# Altium footprint library Passives.PcbLib: 75 footprints (part 4 of 5)
Each footprint in its own frame and in the unit in brackets; x right, y up, seen from the top. Pads: shape width x height; smd on the part's side, far side on the other; paste and mask are expansions set on the pad; w line width, h text height; cw(c..) or ccw(c..) is an arc to the next point about the centre after c.
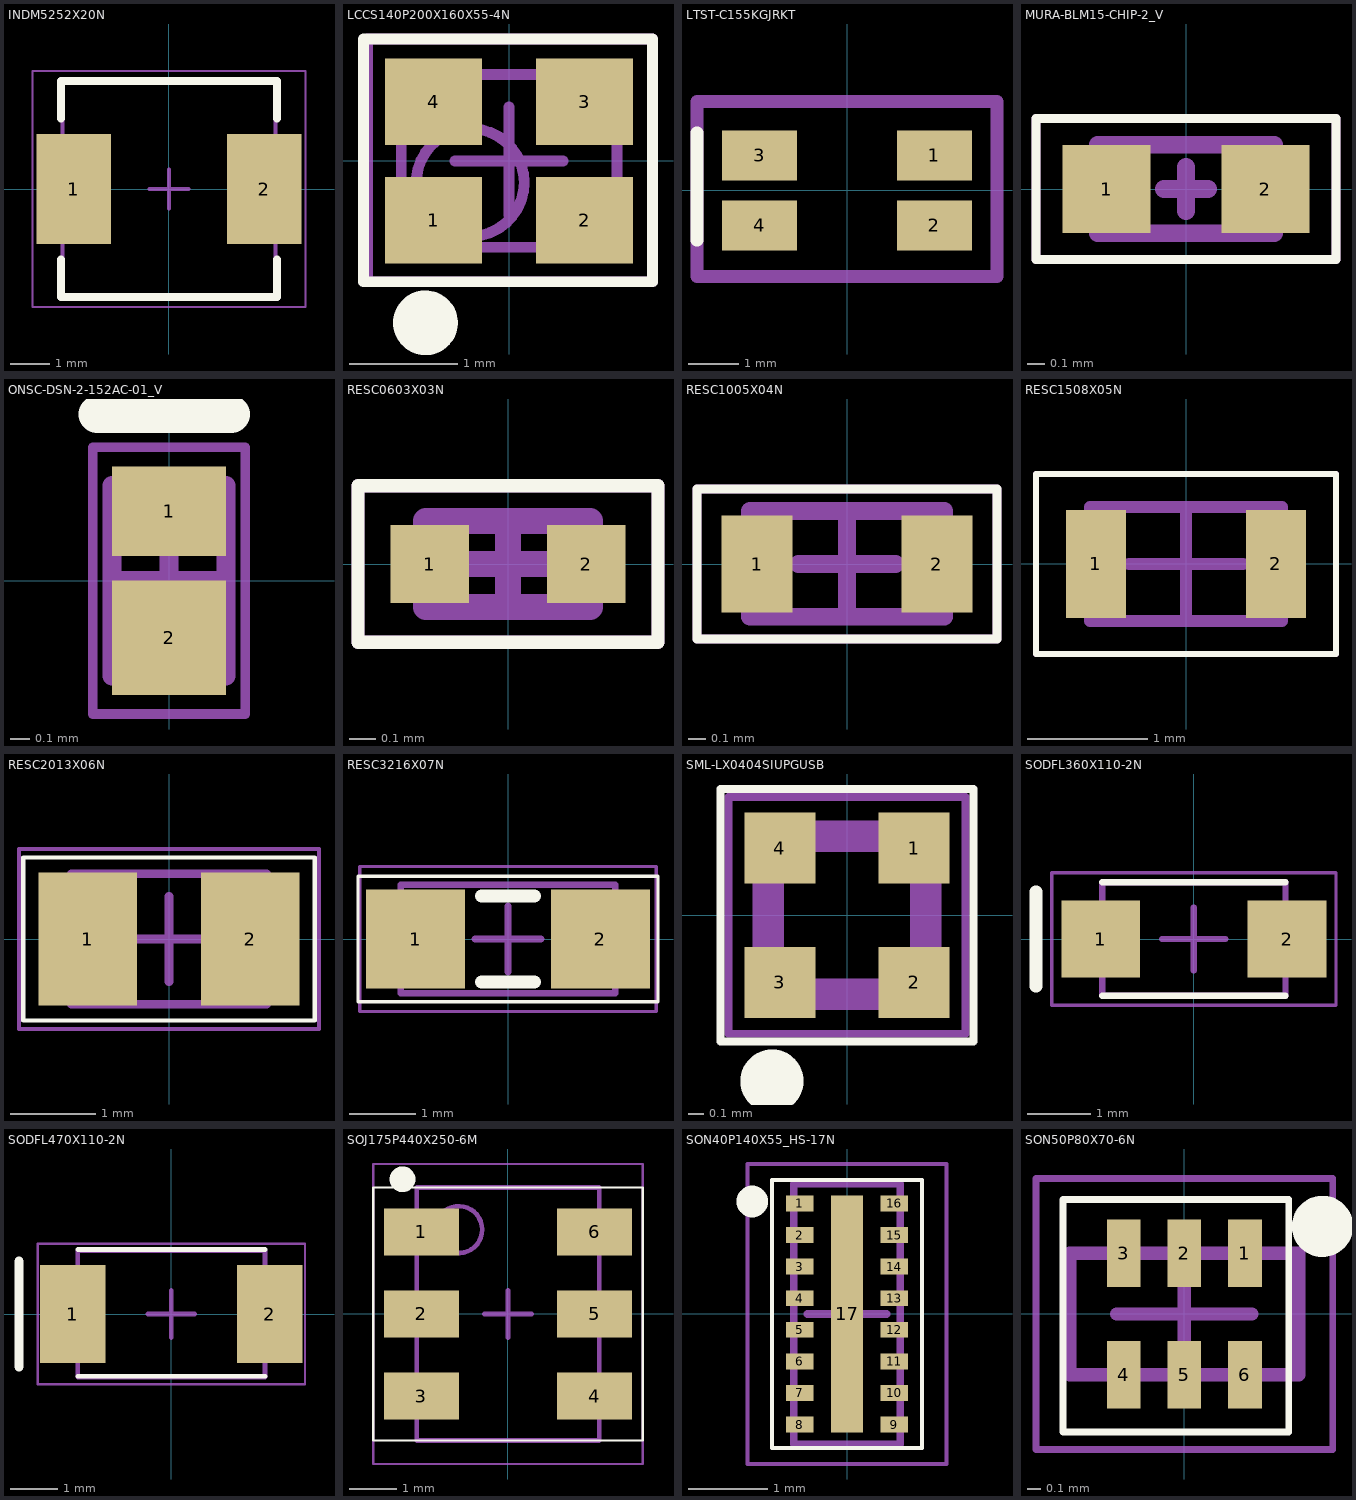
[diagram p3: the footprints below, top view; thin cyan lines are the x and y axes]

## INDM5252X20N [mm] "Molded Inductor, 2-Leads, Body 5.18x5.18mm, IPC Medium Density"
height 2
pads (2):
  rect 1.905x2.79 smd: 1(-2.425,0) 2(2.426,0)
Top Overlay:
  lines w0.2: -2.75,-1.795 -2.75,-2.75 2.75,-2.75 2.75,-1.795 ; -2.75,1.795 -2.75,2.75 2.75,2.75 2.75,1.795
Top 3D Body:
  lines w0.1: -2.715,-2.715 -2.715,2.715 2.715,2.715 2.715,-2.715 -2.715,-2.715
Top Assembly:
  lines w0.05: -3.475,-3 3.475,-3 3.475,3 -3.475,3 -3.475,-3
  lines w0.1: -0.5,0 0.5,0 ; 0,-0.5 0,0.5
Top Courtyard:
  lines w0.05: -3.475,-3 -3.475,3 3.475,3 3.475,-3 -3.475,-3
  text ".Designator" at -0.475,-0.2 h0.4
3D body "INDM5252X20N.step": height 2, standoff 0, extent -2.935,-2.715 2.935,2.715

## LCCS140P200X160X55-4N [mm] "LCC, 4-Pins, Body 2.00x1.60mmx0.55mm, Pitch 1.40mm, IPC Medium Density"
height 0.55
pads (4):
  rect 0.9x0.8 smd: 1(-0.7,-0.55) 2(0.7,-0.55) 3(0.7,0.55) 4(-0.7,0.55)
Top Overlay:
  circle w0.3: c-0.775,-1.5 r0.15
  lines w0.1: -1.35,-1.12 -1.35,1.13 1.33,1.13 1.33,-1.12 -1.35,-1.12
Top 3D Body:
  circle w0.1: c-0.36,-0.2 r0.5
  lines w0.1: -1,-0.8 1,-0.8 1,0.8 -1,0.8 -1,-0.8
Top Assembly:
  lines w0.1: -0.5,0 0.5,0 ; 0,-0.5 0,0.5 ; -1.31,-1.12 1.33,-1.12 1.33,1.13 -1.31,1.13 -1.31,-1.12
Top Courtyard:
  lines w0.1: -1.31,-1.12 1.33,-1.12 1.33,1.13 -1.31,1.13 -1.31,-1.12
  text ".Designator" at -0.4,-0.225 h0.5
3D body: height 0.55, standoff 0, extent -1,-0.8 1,0.8

## LTST-C155KGJRKT [mm]
pads (4):
  rect 1.5x1 smd: 1(1.75,0.7) 2(1.75,-0.7) 3(-1.75,0.7) 4(-1.75,-0.7)
Top Overlay:
  lines w0.254: -3,-1 -3,1.15
Top Assembly:
  lines w0.254: -3,-1.725 -3,1.775 3,1.775 3,-1.725 -3,-1.725
Top Courtyard:
  lines w0.254: -3,-1.725 3,-1.725 3,1.775 -3,1.775 -3,-1.725
  text ".Designator" at -2.575,-0.239 h0.7
3D body "LTST-C155KGJRKT.STEP": height 1.1, standoff 0, extent -1.775,-1.3 1.425,1.4

## MURA-BLM15-CHIP-2_V [mm] "Chip Ferrite Bead, 2-Leads, Body 1x0.5mm"
height 0.55
pads (2):
  rect 0.5x0.5 smd: 1(-0.45,0) 2(0.45,0)
Top Overlay:
  lines w0.05: -0.85,-0.4 0.85,-0.4 0.85,0.4 -0.85,0.4 -0.85,-0.4
Top 3D Body:
  lines w0.1: -0.5,-0.25 0.5,-0.25 0.5,0.25 -0.5,0.25 -0.5,-0.25
Top Assembly:
  lines w0.05: -0.85,-0.4 0.85,-0.4 0.85,0.4 -0.85,0.4 -0.85,-0.4
  lines w0.1: -0.125,0 0.125,0 ; 0,-0.125 0,0.125
Top Courtyard:
  lines w0.05: -0.85,-0.4 0.85,-0.4 0.85,0.4 -0.85,0.4 -0.85,-0.4
  text ".Designator" at -0.65,-0.142 h0.4
3D body "RESC1005X06L.step": height 0.55, standoff 0, extent -0.525,-0.275 0.525,0.275

## ONSC-DSN-2-152AC-01_V [mm] "DSN, 2-Leads, Body 1x0.6mm"
height 0.31
pads (2):
  rect 0.6x0.47 smd paste+0 mask+0: 1(0,0.365)
  rect 0.6x0.6 smd paste+0 mask+0: 2(0,-0.3)
Top Overlay:
  lines w0.2: -0.375,0.875 0.325,0.875
Top 3D Body:
  lines w0.1: -0.3,-0.5 0.3,-0.5 0.3,0.5 -0.3,0.5 -0.3,-0.5
Top Assembly:
  lines w0.05: -0.4,-0.7 0.4,-0.7 0.4,0.7 -0.4,0.7 -0.4,-0.7
  lines w0.1: -0.25,0 0.25,0 ; 0,-0.25 0,0.25
3D body: height 0.31, standoff 0, extent -0.3,-0.5 0.3,0.5

## RESC0603X03N [mm] "Chip Resistor, 2-Leads, Body 0.60x0.30mm, IPC Medium Density"
height 0.26
pads (2):
  rect 0.3x0.3 smd mask+0.04: 1(-0.3,0) 2(0.3,0)
Top Overlay:
  lines w0.05: -0.575,-0.3 0.575,-0.3 0.575,0.3 -0.575,0.3 -0.575,-0.3
Top 3D Body:
  lines w0.1: -0.315,-0.165 0.315,-0.165 0.315,0.165 -0.315,0.165 -0.315,-0.165
Top Assembly:
  lines w0.05: -0.575,-0.3 -0.575,0.3 0.575,0.3 0.575,-0.3 -0.575,-0.3
  lines w0.1: -0.165,0 0.165,0 ; 0,-0.165 0,0.165
Top Courtyard:
  lines w0.05: -0.575,-0.3 -0.575,0.3 0.575,0.3 0.575,-0.3 -0.575,-0.3
  text ".Designator" at -0.25,-0.15 h0.3
3D body "RESC0603X03N.step": height 0.26, standoff 0, extent -0.315,-0.165 0.315,0.165

## RESC1005X04N [mm] "Chip Resistor, 2-Leads, Body 1.00x0.50mm, IPC Medium Density"
height 0.4
pads (2):
  rect 0.4x0.55 smd: 1(-0.51,0) 2(0.51,0)
Top Overlay:
  lines w0.05: -0.85,-0.425 -0.85,0.425 0.85,0.425 0.85,-0.425 -0.85,-0.425
Top 3D Body:
  lines w0.1: -0.55,-0.3 0.55,-0.3 0.55,0.3 -0.55,0.3 -0.55,-0.3
Top Assembly:
  lines w0.05: -0.85,-0.425 0.85,-0.425 0.85,0.425 -0.85,0.425 -0.85,-0.425
  lines w0.1: -0.275,0 0.275,0 ; 0,-0.275 0,0.275
Top Courtyard:
  lines w0.05: -0.85,-0.425 0.85,-0.425 0.85,0.425 -0.85,0.425 -0.85,-0.425
  text ".Designator" at -0.794,-0.121 h0.5
3D body "RESC1005X06N.step": height 0.6, standoff 0, extent -0.55,-0.3 0.55,0.3

## RESC1508X05N [mm] "Chip Resistor, 2-Leads, Body 1.53x0.85mm, IPC Medium Density"
height 0.5
pads (2):
  rect 0.5x0.9 smd: 1(-0.75,0) 2(0.75,0)
Top Overlay:
  lines w0.05: -1.25,-0.75 -1.25,0.75 1.25,0.75 1.25,-0.75 -1.25,-0.75
Top 3D Body:
  lines w0.1: -0.8,-0.475 0.8,-0.475 0.8,0.475 -0.8,0.475 -0.8,-0.475
Top Assembly:
  lines w0.05: -1.25,-0.75 1.25,-0.75 1.25,0.75 -1.25,0.75 -1.25,-0.75
  lines w0.1: -0.475,0 0.475,0 ; 0,-0.475 0,0.475
Top Courtyard:
  lines w0.05: -1.25,-0.75 -1.25,0.75 1.25,0.75 1.25,-0.75 -1.25,-0.75
  text ".Designator" at -0.25,-0.45 h0.5
3D body "RESC1508X05N.step": height 0.5, standoff 0, extent -0.8,-0.475 0.8,0.475

## RESC2013X06N [mm] "Chip Resistor, 2-Leads, Body 2.03x1.27mm, IPC Medium Density"
height 0.59
pads (2):
  rect 1.15x1.55 smd: 1(-0.95,0) 2(0.95,0)
Top Overlay:
  lines w0.05: -1.7,-0.95 -1.7,0.95 1.7,0.95 1.7,-0.95 -1.7,-0.95
Top 3D Body:
  lines w0.1: -1.14,-0.76 -1.14,0.76 1.14,0.76 1.14,-0.76 -1.14,-0.76
Top Assembly:
  lines w0.05: -1.75,-1.05 1.75,-1.05 1.75,1.05 -1.75,1.05 -1.75,-1.05
  lines w0.1: -0.5,0 0.5,0 ; 0,-0.5 0,0.5
Top Courtyard:
  lines w0.05: -1.75,-1.05 1.75,-1.05 1.75,1.05 -1.75,1.05 -1.75,-1.05
  text ".Designator" at -0.325,-0.175 h0.4
3D body "RESC2013X06N.step": height 0.58, standoff 0, extent -1.14,-0.76 1.14,0.76

## RESC3216X07N [mm] "Chip Resistor, 2-Leads, Body 3.20x1.60mm, IPC Medium Density"
height 0.7
pads (2):
  rect 1.5x1.5 smd: 1(-1.4,0) 2(1.4,0)
Top Overlay:
  lines w0.05: -2.275,-0.95 -2.275,0.95 2.275,0.95 2.275,-0.95 -2.275,-0.95
  lines w0.2: -0.4,-0.65 0.4,-0.65 ; -0.4,0.65 0.4,0.65
Top 3D Body:
  lines w0.1: -1.625,-0.825 -1.625,0.825 1.625,0.825 1.625,-0.825 -1.625,-0.825
Top Assembly:
  lines w0.05: -2.25,-1.1 2.25,-1.1 2.25,1.1 -2.25,1.1 -2.25,-1.1
  lines w0.1: -0.5,0 0.5,0 ; 0,-0.5 0,0.5
Top Courtyard:
  lines w0.05: -2.25,-1.1 2.25,-1.1 2.25,1.1 -2.25,1.1 -2.25,-1.1
  text ".Designator" at -0.35,-0.2 h0.4
3D body "RESC3115X07N.step": height 0.7, standoff 0, extent -1.625,-0.825 1.625,0.825

## SML-LX0404SIUPGUSB [mm]
pads (4):
  rect 0.45x0.45 smd: 1(0.425,0.425) 2(0.425,-0.425) 3(-0.425,-0.425) 4(-0.425,0.425)
Top Overlay:
  circle w0.3: c-0.475,-1.05 r0.05
  lines w0.05: -0.8,-0.8 0.8,-0.8 0.8,0.8 -0.8,0.8 -0.8,-0.8
Top 3D Body:
  lines w0.2: -0.5,-0.5 -0.5,0.5 0.5,0.5 0.5,-0.5 -0.5,-0.5
Top Assembly:
  lines w0.05: -0.75,-0.75 -0.75,0.75 0.75,0.75 0.75,-0.75 -0.75,-0.75
Top Courtyard:
  lines w0.05: -0.75,-0.75 -0.75,0.75 0.75,0.75 0.75,-0.75 -0.75,-0.75
  text ".Designator" at -0.375,-0.175 h0.4
3D body "SML-LX0404SIUPGUSB.stp": height 0.26, standoff 0, extent -0.5,-0.5 0.5,0.5

## SODFL360X110-2N [mm] "SODFL, 2-Leads, Body 1.65x3.60mm, IPC Medium Density"
height 1.1
pads (2):
  rect 1.25x1.22 smd: 1(-1.475,0) 2(1.475,0)
Top Overlay:
  lines w0.1: -1.45,-0.9 1.45,-0.9 ; -1.45,0.9 1.45,0.9
  lines w0.2: -2.5,-0.75 -2.5,0.75
Top 3D Body:
  lines w0.1: -1.45,-0.9 1.45,-0.9 1.45,0.9 -1.45,0.9 -1.45,-0.9
Top Assembly:
  lines w0.05: -2.25,-1.05 -2.25,1.05 2.25,1.05 2.25,-1.05 -2.25,-1.05
  lines w0.1: -0.5,0 0.5,0 ; 0,-0.5 0,0.5
Top Courtyard:
  lines w0.05: -2.25,-1.05 2.25,-1.05 2.25,1.05 -2.25,1.05 -2.25,-1.05
  text ".Designator" at -0.35,-0.2 h0.4
3D body "SODFL360X110-2N.step": height 1.1, standoff 0, extent -1.8,-0.9 1.8,0.9

## SODFL470X110-2N [mm] "SODFL, 2-Leads, Body 2.50x4.70mm, IPC Medium Density"
height 1.1
pads (2):
  rect 1.4x2.1 smd: 1(-2.1,0) 2(2.1,0)
Top Overlay:
  lines w0.1: -2,-1.325 2,-1.325 ; -2,1.375 2,1.375
  lines w0.2: -3.25,-1.125 -3.25,1.125
Top 3D Body:
  lines w0.1: -2,-1.35 2,-1.35 2,1.35 -2,1.35 -2,-1.35
Top Assembly:
  lines w0.05: -2.85,-1.5 -2.85,1.5 2.85,1.5 2.85,-1.5 -2.85,-1.5
  lines w0.1: -0.5,0 0.5,0 ; 0,-0.5 0,0.5
Top Courtyard:
  lines w0.05: -2.85,-1.5 2.85,-1.5 2.85,1.5 -2.85,1.5 -2.85,-1.5
  text ".Designator" at -0.35,-0.2 h0.4
3D body "SODFL470X110-2N.step": height 1.1, standoff 0, extent -2.35,-1.35 2.35,1.35

## SOJ175P440X250-6M [mm] "SOJ, 6-Leads, Body 5.40x4.35mm, Pitch 1.75mm, IPC Low Density"
height 2.5
pads (6):
  rect 1.6x1 smd: 1(-1.85,1.75) 2(-1.85,0) 3(-1.85,-1.75) 4(1.85,-1.75) 5(1.85,0) 6(1.85,1.75)
Top Overlay:
  circle w0.3: c-2.25,2.875 r0.125
  lines w0.05: -2.875,-2.7 -2.875,2.7 2.875,2.7 2.875,-2.7 -2.875,-2.7
Top 3D Body:
  circle w0.1: c-1.05,1.8 r0.5
  lines w0.1: -1.95,-2.7 -1.95,2.7 1.95,2.7 1.95,-2.7 -1.95,-2.7
Top Assembly:
  lines w0.05: -2.875,-3.2 2.875,-3.2 2.875,3.2 -2.875,3.2 -2.875,-3.2
  lines w0.1: -0.5,0 0.5,0 ; 0,-0.5 0,0.5
Top Courtyard:
  lines w0.05: -2.875,-3.2 2.875,-3.2 2.875,3.2 -2.875,3.2 -2.875,-3.2
  text ".Designator" at -0.35,-0.2 h0.4
3D body "SOJ175P440X250-6M.step": height 2.5, standoff 0, extent -2.375,-2.7 2.375,2.7

## SON40P140X55_HS-17N [mm] "SON, 16-Leads, Body 3.30x1.35mm, Pitch 0.40mm, Thermal Pad 2.39x0.44mm, IPC Medium Density"
height 0.55
pads (17):
  rect 0.35x0.2 smd: 1(-0.6,1.4) 2(-0.6,1) 3(-0.6,0.6) 4(-0.6,0.2) 5(-0.6,-0.2) 6(-0.6,-0.6) 7(-0.6,-1) 8(-0.6,-1.4) 9(0.6,-1.4) 10(0.6,-1) 11(0.6,-0.6) 12(0.6,-0.2) 13(0.6,0.2) 14(0.6,0.6) 15(0.6,1) 16(0.6,1.4)
  rect 0.4x3 smd: 17(0,0)
Top Overlay:
  circle w0.3: c-1.2,1.425 r0.05
  lines w0.05: -0.95,-1.7 -0.95,1.7 0.95,1.7 0.95,-1.7 -0.95,-1.7
Top 3D Body:
  lines w0.1: -0.675,-1.65 -0.675,1.65 0.675,1.65 0.675,-1.65 -0.675,-1.65
Top Assembly:
  lines w0.05: -1.26,-1.9 1.26,-1.9 1.26,1.9 -1.26,1.9 -1.26,-1.9
  lines w0.1: -0.5,0 0.5,0 ; 0,-0.5 0,0.5
Top Courtyard:
  lines w0.05: -1.26,-1.9 1.26,-1.9 1.26,1.9 -1.26,1.9 -1.26,-1.9
  text ".Designator" at -0.325,-0.175 h0.4
3D body "SON40P140X55_HS-17N.step": height 0.55, standoff 0, extent -0.685,-1.65 0.685,1.65

## SON50P80X70-6N [mm] "SON, 6-Leads, Body 1.60x0.80mm, Pitch 0.50mm, IPC Medium Density"
height 0.7
pads (6):
  rect 0.25x0.5 smd mask+0.05: 1(0.45,0.45) 2(0,0.45) 3(-0.45,0.45) 4(-0.45,-0.45) 5(0,-0.45) 6(0.45,-0.45)
Top Overlay:
  circle w0.254: c1.025,0.65 r0.1
  lines w0.05: -0.9,-0.875 0.775,-0.875 0.775,0.85 -0.9,0.85 -0.9,-0.875
Top 3D Body:
  lines w0.1: -0.85,-0.45 0.85,-0.45 0.85,0.45 -0.85,0.45 -0.85,-0.45
Top Assembly:
  lines w0.05: -1.1,-1.005 -1.1,1.005 1.1,1.005 1.1,-1.005 -1.1,-1.005
  lines w0.1: -0.5,0 0.5,0 ; 0,-0.5 0,0.5
Top Courtyard:
  lines w0.05: -1.1,-1.005 -1.1,1.005 1.1,1.005 1.1,-1.005 -1.1,-1.005
  text ".Designator" at -0.325,-0.175 h0.4
3D body "SON50P80X70-6N.step": height 0.7, standoff 0, extent -0.85,-0.46 0.85,0.46